# EAGLE library part JOHANSON-TECHNOLOGY_2450BM15A0002 (library Stromsensor 1_0)
2.45 GHz Impedance Matched Balun-Filter For TI CC253X/CC2540 Chipset family Data sheet <http://www.johansontechnology.com/images/stories/ip/baluns/balun_filter_combo_matched_2450bm15a0002_v8.pdf>
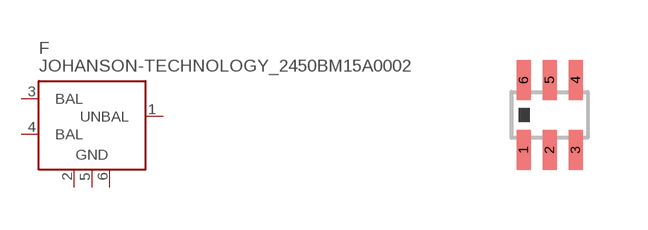
[diagram p4: symbol with the pads of JOHANSON-TECHNOLOGY_2450BM15A0002; footprint JOHANSON-TECHNOLOGY_2450BM15A0002]

Designator prefix F

## JOHANSON-TECHNOLOGY_2450BM15A0002  [JOHANSON-TECHNOLOGY_2450BM15A0002]
1  UNBAL  pas
2  GND  pas
3  BAL  pas
4  BAL  pas
5  GND  pas
6  GND  pas

## Footprint JOHANSON-TECHNOLOGY_2450BM15A0002 (pad centres in mm)
2.45 GHz Impedance Matched Balun-Filter For TI CC253X/CC2540 Chipset family Data sheet <http://www.johansontechnology.com/images/stories/ip/baluns/balun_filter_combo_matched_2450bm15a0002_v8.pdf>
smd 0.35 x 1: 1 -0.65,-0.875; 2 0,-0.875; 3 0.65,-0.875; 4 0.65,0.875; 5 0,0.875; 6 -0.65,0.875